# EAGLE library part USB (library Bjorn4)
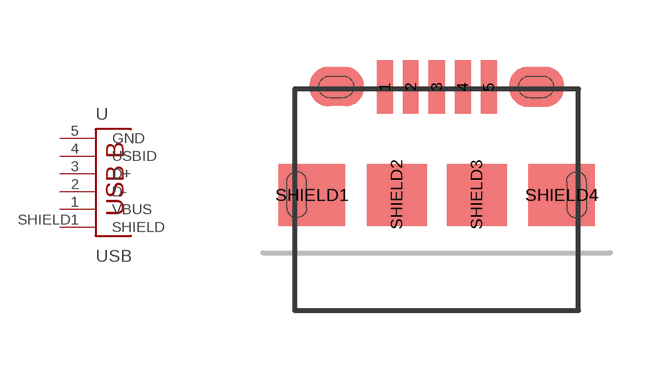
[diagram p7: symbol with the pads of FCI_10118194; footprint FCI_10118194]

Designator prefix -

## USB  [FCI_10118194]
1  VBUS
2  D-
3  D+
4  USBID
5  GND
SHIELD1  SHIELD

## Footprint FCI_10118194 (pad centres in mm)
smd 0.4 x 1.35: 1 -1.3,2.7; 2 -0.65,2.7; 3 0,2.7; 4 0.65,2.7; 5 1.3,2.7
smd 1.65 x 1.55: SHIELD1 -3.125,0; SHIELD4 3.125,0
smd 1.5 x 1.55: SHIELD2 -1,0; SHIELD3 1,0